# EAGLE library part TPS63060DSCR (library Deegou_IC)
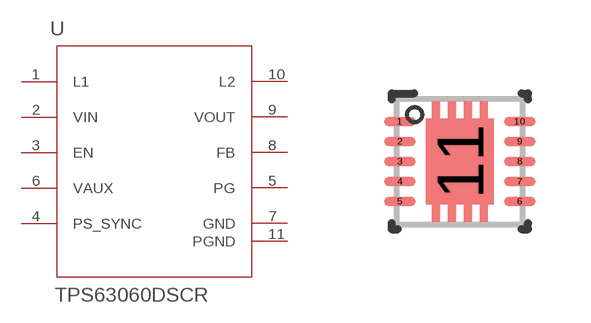
[diagram p108: symbol with the pads of DSC0010E; footprint DSC0010E]

Designator prefix U

## TPS63060DSCR (APPLICATION_BUILDNUMBER: *; COMPTYPE: IC; MANUFACTURER: Texas Instruments; MOUNTTYPE: SMT; PACKAGEREFERENCE: DSC0010E; PARTNUMBER: TPS63060DSC; PIN_COUNT: 11; REFDES: RefDes; ROHS: Y; TYPE: TYPE; VALUE: Value)  [DSC0010E]
1  L1  pwr
2  VIN  pwr
3  EN  in
4  PS_SYNC  in
5  PG  oc
6  VAUX  pas
7  GND  pwr
8  FB  in
9  VOUT  pwr
10  L2  pwr
11  PGND  pwr

## Footprint DSC0010E (pad centres in mm)
smd 0.8 x 0.24: 1 -1.5,1; 2 -1.5,0.5; 3 -1.5,0; 4 -1.5,-0.5; 5 -1.5,-1; 6 1.5,-1; 7 1.5,-0.5; 8 1.5,0; 9 1.5,0.5; 10 1.5,1
smd 1.7 x 2.15: 11 0,0